# EAGLE library part FSA266K8X (library Fairchild_By_element14_Batch_1)
Analog Switch
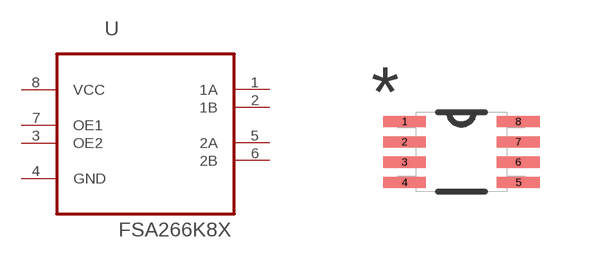
[diagram p187: symbol with the pads of SOP50P310X90-8N; footprint SOP50P310X90-8N]

Designator prefix U

## FSA266K8X (MPN: FSA266K8X; OC_FARNELL: 1020089; OC_NEWARK: 58K1534; PACKAGE: SOP-8; SUPPLIER: Fairchild Semiconductor)  [SOP50P310X90-8N]
1  1A
2  1B
3  OE2  in
4  GND  pas
5  2A
6  2B
7  OE1  in
8  VCC  pwr

## Footprint SOP50P310X90-8N (pad centres in mm)
smd 1.067 x 0.279: 1 -1.422,0.762; 2 -1.422,0.254; 3 -1.422,-0.254; 4 -1.422,-0.762; 5 1.422,-0.762; 6 1.422,-0.254; 7 1.422,0.254; 8 1.422,0.762